# EAGLE library part CONN_NODE-2_DEBUG (library psas_eagle_library)
DEBUG Connector for Node-2 style psas CAN nodes
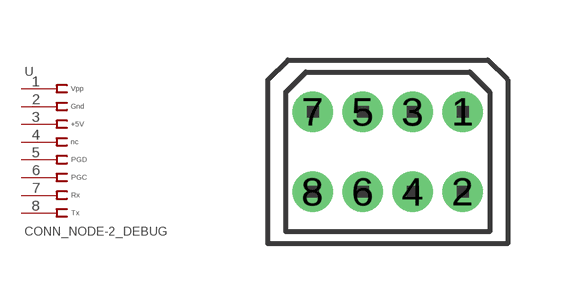
[diagram p28: symbol with the pads of JST-08R-JED; footprint JST-08R-JED]

Designator prefix -

## CONN_NODE-2_DEBUG  [JST-08R-JED]
1  1  pas
2  2  pas
3  3  pas
4  4  pas
5  5  pas
6  6  pas
7  7  pas
8  8  pas

## Footprint JST-08R-JED (pad centres in mm)
JST corp JED series connector. This is an 8 position, straight, shrouded receptacle.
drill 0.508 pad 1.016 round: 1 1.875,1; 2 1.875,-1; 3 0.625,1; 4 0.625,-1; 5 -0.625,1; 6 -0.625,-1; 7 -1.875,1; 8 -1.875,-1